# Altium footprint library footprints.PCBLIB: 172 footprints (part 7 of 11)
Each footprint in its own frame and in the unit in brackets; x right, y up, seen from the top. Pads: shape width x height; smd on the part's side, far side on the other; paste and mask are expansions set on the pad; w line width, h text height; cw(c..) or ccw(c..) is an arc to the next point about the centre after c.
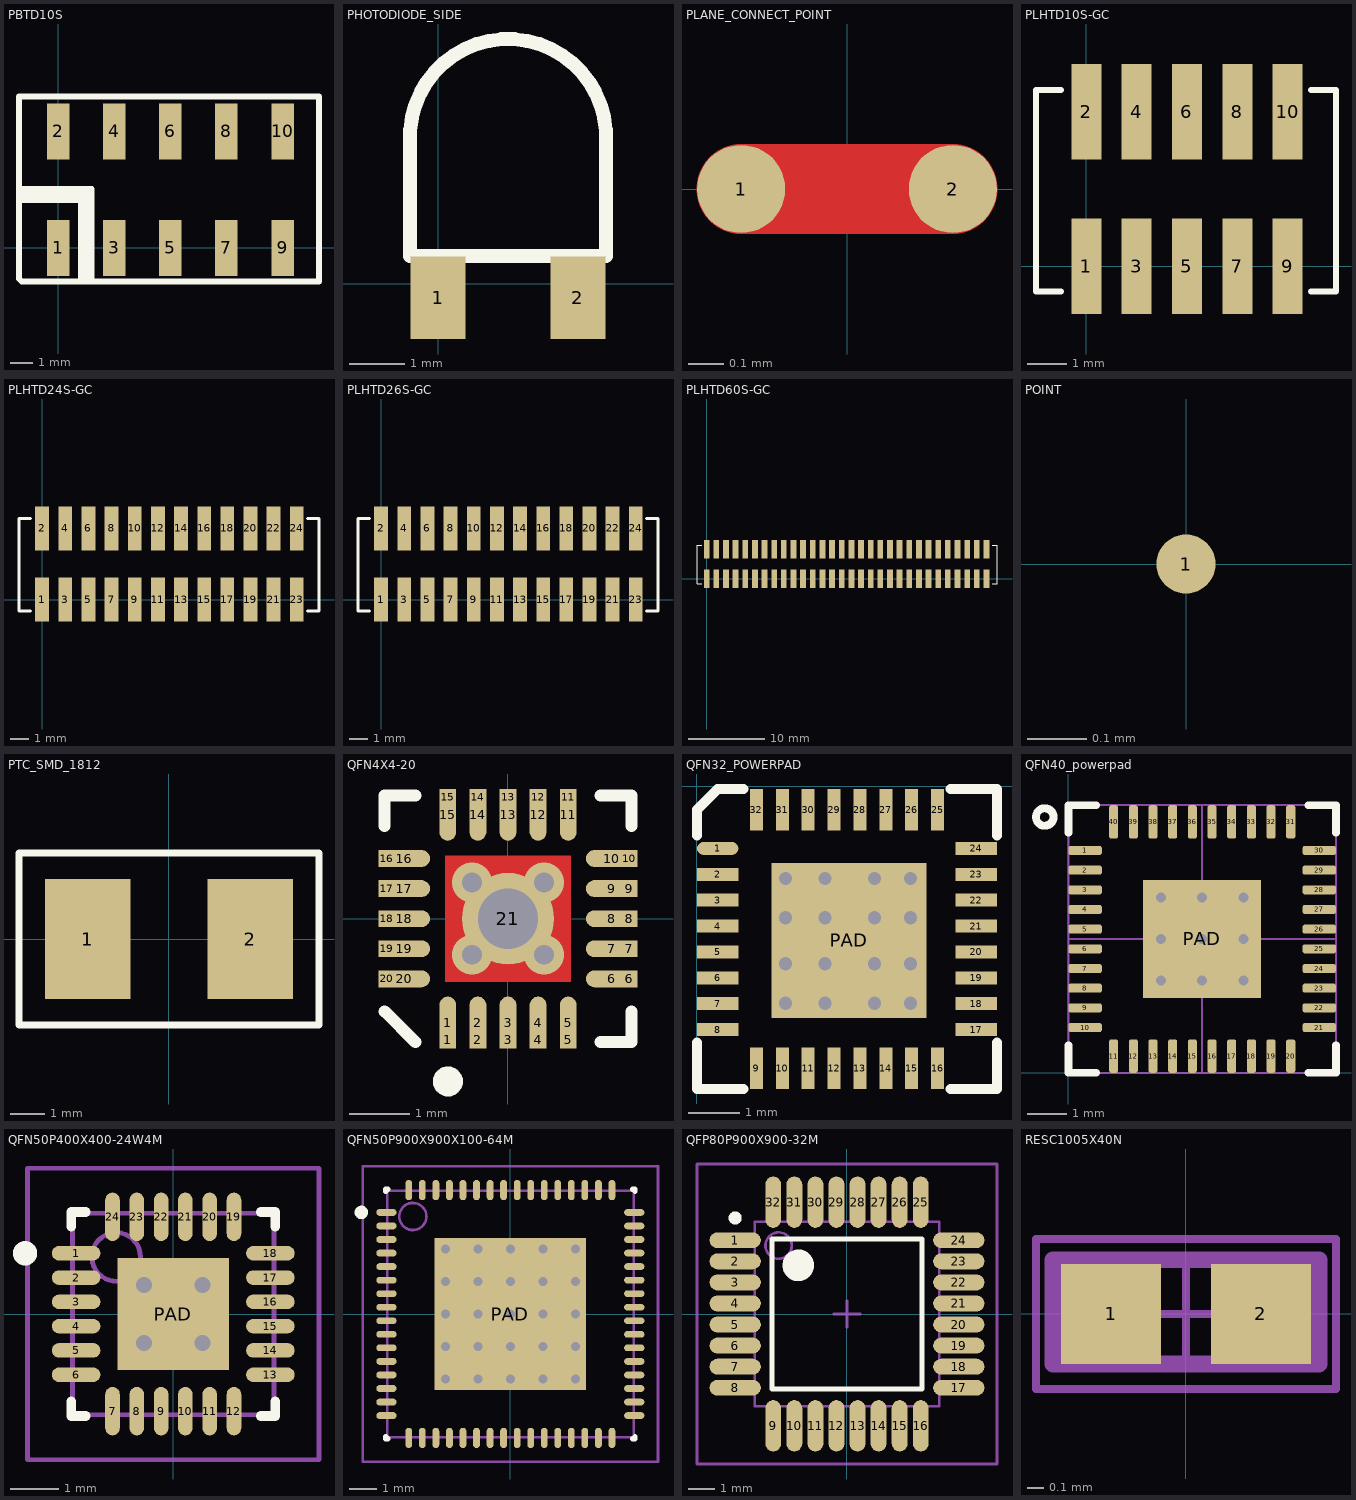
[diagram p6: the footprints below, top view; thin cyan lines are the x and y axes]

## PBTD10S [mm] "SMT 2.54 female header  (Maritex)"
height 7.1
pads (10):
  rect 1.02x2.54 smd: 1(0,0) 2(0,5.28) 3(2.54,0) 4(2.54,5.28) 5(5.08,0) 6(5.08,5.28) 7(7.62,0) 8(7.62,5.28) 9(10.16,0) 10(10.16,5.28)
Top Overlay:
  lines w0.254: -1.778,2.159 1.016,2.159 1.016,-1.524 ; -1.778,2.413 1.27,2.413 1.27,1.778 1.27,-1.524 ; -1.778,2.667 1.524,2.667 1.524,-1.524 ; -0.762,6.858 -0.127,6.858 ; 0.127,6.858 -1.778,6.858 ; 0.889,2.413 1.016,2.413 1.27,2.159 ; 1.016,2.667 1.27,2.667 1.524,2.413 ; -1.778,6.858 -0.508,6.858 11.811,6.858 11.811,-1.016 11.811,-1.524 1.016,-1.524 ; -1.778,6.858 -1.778,-1.397 -1.651,-1.524 1.016,-1.524

## PHOTODIODE_SIDE [mm]
pads (2):
  rect 1x1.5 smd: 1(0,-0.254) 2(2.54,-0.254)
Top Overlay:
  lines w0.254: -0.508,0.508 -0.508,2.794 cw(c1.27,2.667) 3.048,2.794 3.048,0.508 -0.508,0.508

## PLANE_CONNECT_POINT [mm]
pads (2):
  round 0.25 smd: 1(-0.3,0) 2(0.3,0)
Top Layer:
  lines w0.254: -0.3,0 0.3,0

## PLHTD10S-GC [mm] "SMT 1.27 mm dual goldpin"
height 4
pads (10):
  rect 0.76x2.4 smd: 1(0,0) 2(0,3.9) 3(1.27,0) 4(1.27,3.9) 5(2.54,0) 6(2.54,3.9) 7(3.81,0) 8(3.81,3.9) 9(5.08,0) 10(5.08,3.9)
Top Overlay:
  lines w0.15: -0.635,-0.635 -1.27,-0.635 -1.27,4.445 -0.635,4.445 ; 5.665,-0.635 6.3,-0.635 6.3,4.445 5.665,4.445

## PLHTD24S-GC [mm] "SMT 1.27 mm dual goldpin"
height 4
pads (24):
  rect 0.76x2.4 smd: 1(0,0) 2(0,3.9) 3(1.27,0) 4(1.27,3.9) 5(2.54,0) 6(2.54,3.9) 7(3.81,0) 8(3.81,3.9) 9(5.08,0) 10(5.08,3.9) 11(6.35,0) 12(6.35,3.9) 13(7.62,0) 14(7.62,3.9) 15(8.89,0) 16(8.89,3.9) 17(10.16,0) 18(10.16,3.9) 19(11.43,0) 20(11.43,3.9) 21(12.7,0) 22(12.7,3.9) 23(13.97,0) 24(13.97,3.9)
Top Overlay:
  lines w0.15: -0.635,-0.635 -1.27,-0.635 -1.27,4.445 -0.635,4.445 ; 14.555,-0.635 15.19,-0.635 15.19,4.445 14.555,4.445

## PLHTD26S-GC [mm] "SMT 1.27 mm dual goldpin"
height 4
pads (24):
  rect 0.76x2.4 smd: 1(0,0) 2(0,3.9) 3(1.27,0) 4(1.27,3.9) 5(2.54,0) 6(2.54,3.9) 7(3.81,0) 8(3.81,3.9) 9(5.08,0) 10(5.08,3.9) 11(6.35,0) 12(6.35,3.9) 13(7.62,0) 14(7.62,3.9) 15(8.89,0) 16(8.89,3.9) 17(10.16,0) 18(10.16,3.9) 19(11.43,0) 20(11.43,3.9) 21(12.7,0) 22(12.7,3.9) 23(13.97,0) 24(13.97,3.9)
Top Overlay:
  lines w0.15: -0.635,-0.635 -1.27,-0.635 -1.27,4.445 -0.635,4.445 ; 14.555,-0.635 15.19,-0.635 15.19,4.445 14.555,4.445

## PLHTD60S-GC [mm] "SMT 1.27 mm dual goldpin"
height 4
pads (60):
  rect 0.76x2.4 smd: 1(0,0) 2(0,3.9) 3(1.27,0) 4(1.27,3.9) 5(2.54,0) 6(2.54,3.9) 7(3.81,0) 8(3.81,3.9) 9(5.08,0) 10(5.08,3.9) 11(6.35,0) 12(6.35,3.9) 13(7.62,0) 14(7.62,3.9) 15(8.89,0) 16(8.89,3.9) 17(10.16,0) 18(10.16,3.9) 19(11.43,0) 20(11.43,3.9) 21(12.7,0) 22(12.7,3.9) 23(13.97,0) 24(13.97,3.9) 25(15.24,0) 26(15.24,3.9) 27(16.51,0) 28(16.51,3.9) 29(17.78,0) 30(17.78,3.9) 31(19.05,0) 32(19.05,3.9) 33(20.32,0) 34(20.32,3.9) 35(21.59,0) 36(21.59,3.9) 37(22.86,0) 38(22.86,3.9) 39(24.13,0) 40(24.13,3.9) 41(25.4,0) 42(25.4,3.9) 43(26.67,0) 44(26.67,3.9) 45(27.94,0) 46(27.94,3.9) 47(29.21,0) 48(29.21,3.9) 49(30.48,0) 50(30.48,3.9) 51(31.75,0) 52(31.75,3.9) 53(33.02,0) 54(33.02,3.9) 55(34.29,0) 56(34.29,3.9) 57(35.56,0) 58(35.56,3.9) 59(36.83,0) 60(36.83,3.9)
Top Overlay:
  lines w0.15: -0.635,-0.635 -1.27,-0.635 -1.27,4.445 -0.635,4.445 ; 37.585,-0.645 38.22,-0.645 38.22,4.435 37.585,4.435

## POINT [mm]
pads (1):
  round 0.1 smd: 1(0,0)

## PTC_SMD_1812 [mm] "PTC FUSE SMD1812 (Maritex)"
height 0.6
pads (2):
  rect 2.5x3.5 smd: 1(-2.365,0) 2(2.365,0)
Top Overlay:
  lines w0.2: -4.365,-2.5 4.365,-2.5 4.365,2.5 -4.365,2.5 -4.365,0 -4.365,-2.5

## QFN4X4-20 [mm] "Quad Flat No Lead; 20 Terminals; Body 4 x 4 mm; Pitch 0.5 mm"
height 1
pads (41):
  rect 0.28x0.28 smd: 1(-1,-2.015) 2(-0.5,-2.015) 3(0,-2.015) 4(0.5,-2.015) 5(1,-2.015) 6(2.015,-1) 7(2.015,-0.5) 8(2.015,0) 9(2.015,0.5) 10(2.015,1) 11(1,2.015) 12(0.5,2.015) 13(0,2.015) 14(-0.5,2.015) 15(-1,2.015) 16(-2.015,1) 17(-2.015,0.5) 18(-2.015,0) 19(-2.015,-0.5) 20(-2.015,-1)
  oval 0.28x0.86 smd: 1(-1,-1.725) 2(-0.5,-1.725) 3(0,-1.725) 4(0.5,-1.725) 5(1,-1.725) 11(1,1.725) 12(0.5,1.725) 13(0,1.725) 14(-0.5,1.725) 15(-1,1.725)
  oval 0.86x0.28 smd: 6(1.725,-1) 7(1.725,-0.5) 8(1.725,0) 9(1.725,0.5) 10(1.725,1) 16(-1.725,1) 17(-1.725,0.5) 18(-1.725,0) 19(-1.725,-0.5) 20(-1.725,-1)
  round 1.524 hole 1: 21(0,0)
via -0.6,0.6 diameter 0.66 hole 0.33
via 0.6,0.6 diameter 0.66 hole 0.33
via 0.6,-0.6 diameter 0.66 hole 0.33
via -0.6,-0.6 diameter 0.66 hole 0.33
Top Layer:
  rectangle: -1.05,-1.05 1.05,1.05
Top Overlay:
  circle w0.25: c-1,-2.705 r0.125
  lines w0.2: -2.05,-1.54 -1.54,-2.05 ; -2.05,1.54 -2.05,2.05 -1.54,2.05 ; 1.54,-2.05 2.05,-2.05 2.05,-1.54 ; 1.54,2.05 2.05,2.05 2.05,1.54

## QFN32_POWERPAD [mm]
pads (33):
  oval 0.8x0.25 smd: 1(0.4,-1.2)
  rect 0.8x0.25 smd: 2(0.4,-1.7) 3(0.4,-2.2) 4(0.4,-2.7) 5(0.4,-3.2) 6(0.4,-3.7) 7(0.4,-4.2) 8(0.4,-4.7) 17(5.4,-4.7) 18(5.4,-4.2) 19(5.4,-3.7) 20(5.4,-3.2) 21(5.4,-2.7) 22(5.4,-2.2) 23(5.4,-1.7) 24(5.4,-1.2)
  rect 0.25x0.8 smd: 9(1.15,-5.45) 10(1.65,-5.45) 11(2.15,-5.45) 12(2.65,-5.45) 13(3.15,-5.45) 14(3.65,-5.45) 15(4.15,-5.45) 16(4.65,-5.45) 25(4.65,-0.45) 26(4.15,-0.45) 27(3.65,-0.45) 28(3.15,-0.45) 29(2.65,-0.45) 30(2.15,-0.45) 31(1.65,-0.45) 32(1.15,-0.45)
  rect 3x3 smd paste-10: PAD(2.94,-2.978)
via 1.714,-1.778 diameter 0.508 hole 0.254
via 1.714,-2.54 diameter 0.508 hole 0.254
via 1.714,-4.191 diameter 0.508 hole 0.254
via 1.714,-3.429 diameter 0.508 hole 0.254
via 2.476,-3.429 diameter 0.508 hole 0.254
via 2.476,-4.191 diameter 0.508 hole 0.254
via 2.476,-2.54 diameter 0.508 hole 0.254
via 2.476,-1.778 diameter 0.508 hole 0.254
via 3.429,-3.429 diameter 0.508 hole 0.254
via 3.429,-4.191 diameter 0.508 hole 0.254
via 3.429,-2.54 diameter 0.508 hole 0.254
via 3.429,-1.778 diameter 0.508 hole 0.254
via 4.127,-3.429 diameter 0.508 hole 0.254
via 4.127,-4.191 diameter 0.508 hole 0.254
via 4.127,-2.54 diameter 0.508 hole 0.254
via 4.127,-1.778 diameter 0.508 hole 0.254
Top Overlay:
  lines w0.2: 0,-4.95 0,-5.85 0.9,-5.85 ; 0,-0.95 0,-0.45 0.4,-0.05 0.9,-0.05 ; 4.9,-5.85 5.8,-5.85 5.8,-4.95 ; 4.9,-0.05 5.8,-0.05 5.8,-0.95
Top Paste:
  rectangle: 1.425,-2.825 2.775,-1.475
  rectangle: 3.1,-2.825 4.45,-1.475
  rectangle: 3.1,-4.475 4.45,-3.125
  rectangle: 1.425,-4.475 2.775,-3.125

## QFN40_powerpad [mm]
pads (41):
  rrect50% 0.85x0.23 smd: 1(0.425,5.65) 2(0.425,5.15) 3(0.425,4.65) 4(0.425,4.15) 5(0.425,3.65) 6(0.425,3.15) 7(0.425,2.65) 8(0.425,2.15) 9(0.425,1.65) 10(0.425,1.15) 21(6.375,1.15) 22(6.375,1.65) 23(6.375,2.15) 24(6.375,2.65) 25(6.375,3.15) 26(6.375,3.65) 27(6.375,4.15) 28(6.375,4.65) 29(6.375,5.15) 30(6.375,5.65)
  rrect50% 0.23x0.85 smd: 11(1.15,0.425) 12(1.65,0.425) 13(2.15,0.425) 14(2.65,0.425) 15(3.15,0.425) 16(3.65,0.425) 17(4.15,0.425) 18(4.65,0.425) 19(5.15,0.425) 20(5.65,0.425) 31(5.65,6.375) 32(5.15,6.375) 33(4.65,6.375) 34(4.15,6.375) 35(3.65,6.375) 36(3.15,6.375) 37(2.65,6.375) 38(2.15,6.375) 39(1.65,6.375) 40(1.15,6.375)
  rect 3x3 smd paste-2.54: PAD(3.4,3.4)
via 4.45,2.35 diameter 0.508 hole 0.254
via 3.4,2.35 diameter 0.508 hole 0.254
via 2.35,2.35 diameter 0.508 hole 0.254
via 3.4,3.4 diameter 0.508 hole 0.254
via 2.35,3.4 diameter 0.508 hole 0.254
via 4.45,3.4 diameter 0.508 hole 0.254
via 4.45,4.45 diameter 0.508 hole 0.254
via 2.35,4.45 diameter 0.508 hole 0.254
via 3.4,4.45 diameter 0.508 hole 0.254
Top Overlay:
  circle w0.2: c-0.6,6.5 r0.224
  lines w0.2: 0,0.7 0,0 0.7,0 ; 0,6.1 0,6.8 0.7,6.8 ; 6.1,0 6.8,0 6.8,0.7 ; 6.1,6.8 6.8,6.8 6.8,6.1
Top Paste:
  rectangle: 3.6,3.6 4.7,4.7
  rectangle: 2.1,3.6 3.2,4.7
  rectangle: 2.1,2.1 3.2,3.2
  rectangle: 3.6,2.1 4.7,3.2
Top Solder:
  rectangle: 1.9,1.9 4.9,4.9
Mechanical 15:
  lines w0.05: 0,3.4 6.8,3.4 ; 3.4,0 3.4,6.8 ; 0,0 6.8,0 6.8,6.8 0,6.8 0,0

## QFN50P400X400-24W4M [mm] "QFN, 24-Leads, Body 4x4mm, Pitch 0.5mm, IPC Low Density"
height 0.8
pads (25):
  oval 1x0.3 smd: 1(-2,1.25) 2(-2,0.75) 3(-2,0.25) 4(-2,-0.25) 5(-2,-0.75) 6(-2,-1.25) 13(2,-1.25) 14(2,-0.75) 15(2,-0.25) 16(2,0.25) 17(2,0.75) 18(2,1.25)
  oval 0.3x1 smd: 7(-1.25,-2) 8(-0.75,-2) 9(-0.25,-2) 10(0.25,-2) 11(0.75,-2) 12(1.25,-2) 19(1.25,2) 20(0.75,2) 21(0.25,2) 22(-0.25,2) 23(-0.75,2) 24(-1.25,2)
  rect 2.3x2.3 smd: PAD(0,0)
via -0.6,0.6 diameter 0.66 hole 0.33
via 0.6,0.6 diameter 0.66 hole 0.33
via -0.6,-0.6 diameter 0.66 hole 0.33
via 0.6,-0.6 diameter 0.66 hole 0.33
Top Overlay:
  circle w0.25: c-3.05,1.25 r0.125
  lines w0.2: -2.1,-1.8 -2.1,-2.1 -1.8,-2.1 ; -2.1,1.8 -2.1,2.1 -1.8,2.1 ; 1.8,-2.1 2.1,-2.1 2.1,-1.8 ; 1.8,2.1 2.1,2.1 2.1,1.8
Mechanical 13:
  circle w0.1: c-1.175,1.175 r0.5
  lines w0.1: -2.075,-2.075 -2.075,2.075 2.075,2.075 2.075,-2.075 -2.075,-2.075
Mechanical 15:
  lines w0.1: -0.5,0 0.5,0 ; 0,-0.5 0,0.5 ; -3,-3 -3,3 3,3 3,-3 -3,-3
3D body: height 0.8, standoff 0, extent -2.075,-2.075 2.075,2.075

## QFN50P900X900X100-64M [mm] "QFN, 64-Leads, Body 9.1x9.1mm (max), Pitch 0.50mm, IPC Low Density"
height 1
pads (65):
  oval 0.75x0.25 smd: 1(-4.575,3.75) 2(-4.575,3.25) 3(-4.575,2.75) 4(-4.575,2.25) 5(-4.575,1.75) 6(-4.575,1.25) 7(-4.575,0.75) 8(-4.575,0.25) 9(-4.575,-0.25) 10(-4.575,-0.75) 11(-4.575,-1.25) 12(-4.575,-1.75) 13(-4.575,-2.25) 14(-4.575,-2.75) 15(-4.575,-3.25) 16(-4.575,-3.75) 33(4.575,-3.75) 34(4.575,-3.25) 35(4.575,-2.75) 36(4.575,-2.25) 37(4.575,-1.75) 38(4.575,-1.25) 39(4.575,-0.75) 40(4.575,-0.25) 41(4.575,0.25) 42(4.575,0.75) 43(4.575,1.25) 44(4.575,1.75) 45(4.575,2.25) 46(4.575,2.75) 47(4.575,3.25) 48(4.575,3.75)
  oval 0.25x0.75 smd: 17(-3.75,-4.575) 18(-3.25,-4.575) 19(-2.75,-4.575) 20(-2.25,-4.575) 21(-1.75,-4.575) 22(-1.25,-4.575) 23(-0.75,-4.575) 24(-0.25,-4.575) 25(0.25,-4.575) 26(0.75,-4.575) 27(1.25,-4.575) 28(1.75,-4.575) 29(2.25,-4.575) 30(2.75,-4.575) 31(3.25,-4.575) 32(3.75,-4.575) 49(3.75,4.575) 50(3.25,4.575) 51(2.75,4.575) 52(2.25,4.575) 53(1.75,4.575) 54(1.25,4.575) 55(0.75,4.575) 56(0.25,4.575) 57(-0.25,4.575) 58(-0.75,4.575) 59(-1.25,4.575) 60(-1.75,4.575) 61(-2.25,4.575) 62(-2.75,4.575) 63(-3.25,4.575) 64(-3.75,4.575)
  rect 5.6x5.6 smd paste-100: PAD(0,0)
via -2.4,2.4 diameter 0.66 hole 0.33
via -1.2,2.4 diameter 0.66 hole 0.33
via 0,2.4 diameter 0.66 hole 0.33
via 1.2,2.4 diameter 0.66 hole 0.33
via 2.4,2.4 diameter 0.66 hole 0.33
via -2.4,1.2 diameter 0.66 hole 0.33
via -1.2,1.2 diameter 0.66 hole 0.33
via 0,1.2 diameter 0.66 hole 0.33
via 1.2,1.2 diameter 0.66 hole 0.33
via 2.4,1.2 diameter 0.66 hole 0.33
via -2.4,0 diameter 0.66 hole 0.33
via -1.2,0 diameter 0.66 hole 0.33
via 0,0 diameter 0.66 hole 0.33
via 1.2,0 diameter 0.66 hole 0.33
via 2.4,0 diameter 0.66 hole 0.33
via -2.4,-1.2 diameter 0.66 hole 0.33
via -1.2,-1.2 diameter 0.66 hole 0.33
via 0,-1.2 diameter 0.66 hole 0.33
via 1.2,-1.2 diameter 0.66 hole 0.33
via 2.4,-1.2 diameter 0.66 hole 0.33
via -2.4,-2.4 diameter 0.66 hole 0.33
via -1.2,-2.4 diameter 0.66 hole 0.33
via 0,-2.4 diameter 0.66 hole 0.33
via 1.2,-2.4 diameter 0.66 hole 0.33
via 2.4,-2.4 diameter 0.66 hole 0.33
Top Overlay:
  circle w0.25: c-5.5,3.75 r0.125
  lines w0.2: -4.6,-4.525 -4.6,-4.6 -4.525,-4.6 ; -4.6,4.525 -4.6,4.6 -4.525,4.6 ; 4.525,-4.6 4.6,-4.6 4.6,-4.525 ; 4.525,4.6 4.6,4.6 4.6,4.525
Top Paste:
  rectangle: 0.2,-2.75 2.75,-0.2
  rectangle: -2.75,-2.75 -0.2,-0.2
  rectangle: 0.25,0.2 2.75,2.75
  rectangle: -2.75,0.15 -0.2,2.75
Mechanical 13:
  circle w0.1: c-3.6,3.6 r0.5
  lines w0.1: -4.55,-4.55 -4.55,4.55 4.55,4.55 4.55,-4.55 -4.55,-4.55
Mechanical 15:
  lines w0.1: -0.5,0 0.5,0 ; 0,-0.5 0,0.5 ; -5.45,-5.45 -5.45,5.45 5.45,5.45 5.45,-5.45 -5.45,-5.45
3D body: height 1, standoff 0.05, extent -4.55,-4.55 4.55,4.55

## QFP80P900X900-32M [mm] "32-Pin Quad Flat Pack 0.8 mm Pitch"
height 1.7
pads (32):
  oval 1.95x0.6 smd: 1(-4.25,2.8) 2(-4.25,2) 3(-4.25,1.2) 4(-4.25,0.4) 5(-4.25,-0.4) 6(-4.25,-1.2) 7(-4.25,-2) 8(-4.25,-2.8) 17(4.25,-2.8) 18(4.25,-2) 19(4.25,-1.2) 20(4.25,-0.4) 21(4.25,0.4) 22(4.25,1.2) 23(4.25,2) 24(4.25,2.8)
  oval 0.6x1.95 smd: 9(-2.8,-4.25) 10(-2,-4.25) 11(-1.2,-4.25) 12(-0.4,-4.25) 13(0.4,-4.25) 14(1.2,-4.25) 15(2,-4.25) 16(2.8,-4.25) 25(2.8,4.25) 26(2,4.25) 27(1.2,4.25) 28(0.4,4.25) 29(-0.4,4.25) 30(-1.2,4.25) 31(-2,4.25) 32(-2.8,4.25)
Top Overlay:
  circle w0.25: c-4.25,3.65 r0.125
  circle w0.6: c-1.85,1.85 r0.3
  lines w0.2: -2.85,-2.85 -2.85,2.85 2.85,2.85 2.85,-2.85 -2.85,-2.85
Mechanical 13:
  circle w0.1: c-2.6,2.6 r0.5
  lines w0.1: -3.5,-3.5 -3.5,3.5 3.5,3.5 3.5,-3.5 -3.5,-3.5
Mechanical 15:
  lines w0.1: -0.5,0 0.5,0 ; 0,-0.5 0,0.5 ; -5.7,-5.7 -5.7,5.7 5.7,5.7 5.7,-5.7 -5.7,-5.7
3D body: height 1.7, standoff 0, extent -3.5,-3.5 3.5,3.5

## RESC1005X40N [mm] "Chip Resistor, Body 1.0x0.5mm, IPC Medium Density"
height 0.4
pads (2):
  rect 0.6x0.6 smd: 1(-0.45,0) 2(0.45,0)
Mechanical 14:
  lines w0.1: -0.8,-0.3 0.8,-0.3 0.8,0.325 -0.8,0.325 -0.8,-0.3
Mechanical 15:
  lines w0.05: -0.3,0 0.3,0 ; 0,-0.3 0,0.3 ; -0.9,-0.45 0.9,-0.45 0.9,0.45 -0.9,0.45 -0.9,-0.45
3D body: height 0.4, standoff 0, extent -0.325,-0.275 0.325,0.275
3D body: height 0.4, standoff 0, extent -0.525,-0.275 -0.325,0.275
3D body: height 0.4, standoff 0, extent 0.325,-0.275 0.525,0.275